# Altium footprint library 3314J-1-501E.PcbLib: 2 footprints
Each footprint in its own frame and in the unit in brackets; x right, y up, seen from the top. Pads: shape width x height; smd on the part's side, far side on the other; paste and mask are expansions set on the pad; w line width, h text height; cw(c..) or ccw(c..) is an arc to the next point about the centre after c.
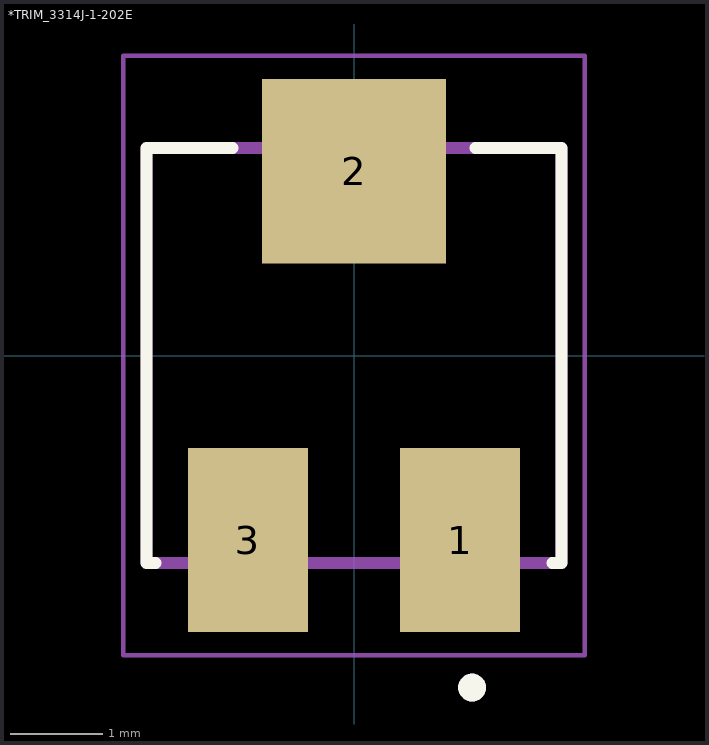
[diagram p0: the footprints below, top view; thin cyan lines are the x and y axes]

## *TRIM_3314J-1-202E [mm]
pads (3):
  rect 1.3x2 smd: 1(1.15,-2) 3(-1.15,-2)
  rect 2x2 smd: 2(0,2)
Top Overlay:
  circle w0.2: c1.28,-3.6 r0.05
  lines w0.127: -2.15,-2.25 -2.25,-2.25 -2.25,2.25 -1.315,2.25 ; 1.315,2.25 2.25,2.25 2.25,-2.25 2.15,-2.25
Mechanical 4:
  circle w0.2: c1.28,-3.6 r0.05
  circle w0.2: c1.28,-3.6 r0.05
  lines w0.127: -2.25,-2.25 -2.25,2.25 ; -2.25,-2.25 2.25,-2.25 ; -2.25,-2.25 -2.25,2.25 ; -2.25,-2.25 2.25,-2.25 ; -2.25,2.25 2.25,2.25 ; -2.25,2.25 2.25,2.25 ; 2.25,-2.25 2.25,2.25 ; 2.25,-2.25 2.25,2.25
Mechanical 16:
  lines w0.05: -2.5,-3.25 -2.5,3.25 2.5,3.25 2.5,-3.25 -2.5,-3.25

## PCBComponent_1 [mm]